# EAGLE library part 2337822-1 (library 473)
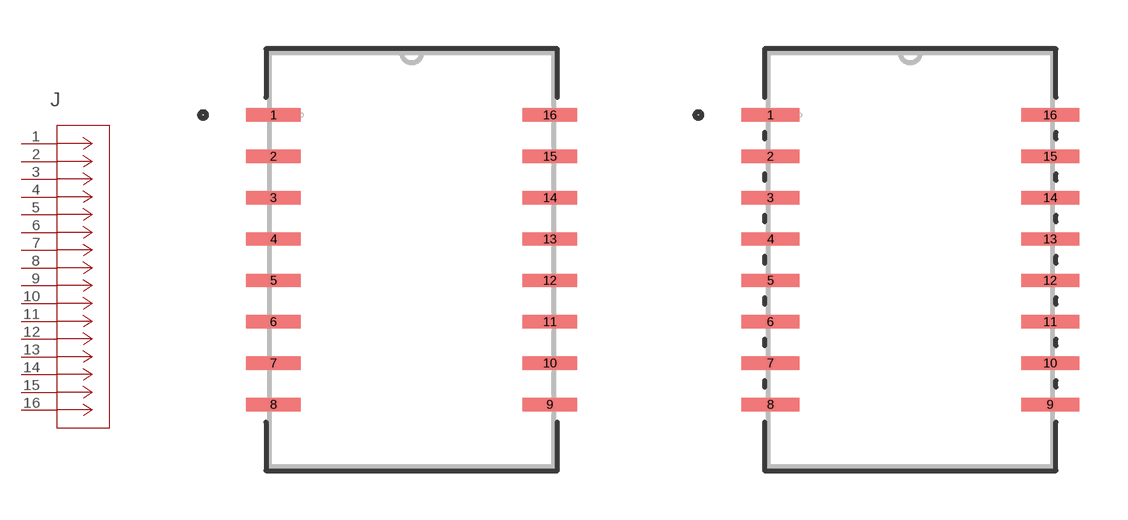
[diagram p0: symbol with the pads of CONN16_2337822-1_TEC; footprints CONN16_2337822-1_TEC, CONN16_2337822-1_TEC-M]

Designator prefix J

## 2337822-1 (COPYRIGHT: Copyright (C) 2022 Ultra Librarian. All rights reserved.; DIGI-KEY_PART_NUMBER_1: A145148TR-ND; DIGI-KEY_PART_NUMBER_2: A145148CT-ND; DIGI-KEY_PART_NUMBER_3: A145148DKR-ND; MANUFACTURER_PART_NUMBER: 2337822-1; MFR_NAME: TE Connectivity)  [CONN16_2337822-1_TEC]
1  1  pas
2  2  pas
3  3  pas
4  4  pas
5  5  pas
6  6  pas
7  7  pas
8  8  pas
9  9  pas
10  10  pas
11  11  pas
12  12  pas
13  13  pas
14  14  pas
15  15  pas
16  16  pas

## 2337822-1CONN16_2337822-1_TEC-M (COPYRIGHT: Copyright (C) 2022 Ultra Librarian. All rights reserved.; DIGI-KEY_PART_NUMBER_1: A145148TR-ND; DIGI-KEY_PART_NUMBER_2: A145148CT-ND; DIGI-KEY_PART_NUMBER_3: A145148DKR-ND; MANUFACTURER_PART_NUMBER: 2337822-1; MFR_NAME: TE Connectivity)  [CONN16_2337822-1_TEC-M]
Pads as for CONN16_2337822-1_TEC

## 2337822-1CONN16_2337822-1_TEC-L (COPYRIGHT: Copyright (C) 2022 Ultra Librarian. All rights reserved.; DIGI-KEY_PART_NUMBER_1: A145148TR-ND; DIGI-KEY_PART_NUMBER_2: A145148CT-ND; DIGI-KEY_PART_NUMBER_3: A145148DKR-ND; MANUFACTURER_PART_NUMBER: 2337822-1; MFR_NAME: TE Connectivity)  [CONN16_2337822-1_TEC-L]
Pads as for CONN16_2337822-1_TEC

## Footprint CONN16_2337822-1_TEC (pad centres in mm)
smd 1.676 x 0.406: 1 -4.242,4.445; 2 -4.242,3.175; 3 -4.242,1.905; 4 -4.242,0.635; 5 -4.242,-0.635; 6 -4.242,-1.905; 7 -4.242,-3.175; 8 -4.242,-4.445; 9 4.242,-4.445; 10 4.242,-3.175; 11 4.242,-1.905; 12 4.242,-0.635; 13 4.242,0.635; 14 4.242,1.905; 15 4.242,3.175; 16 4.242,4.445

## Footprint CONN16_2337822-1_TEC-M (pad centres in mm)
smd 1.778 x 0.406: 1 -4.293,4.445; 2 -4.293,3.175; 3 -4.293,1.905; 4 -4.293,0.635; 5 -4.293,-0.635; 6 -4.293,-1.905; 7 -4.293,-3.175; 8 -4.293,-4.445; 9 4.293,-4.445; 10 4.293,-3.175; 11 4.293,-1.905; 12 4.293,-0.635; 13 4.293,0.635; 14 4.293,1.905; 15 4.293,3.175; 16 4.293,4.445

## Footprint CONN16_2337822-1_TEC-L (pad centres in mm)
smd 1.575 x 0.406: 1 -4.191,4.445; 2 -4.191,3.175; 3 -4.191,1.905; 4 -4.191,0.635; 5 -4.191,-0.635; 6 -4.191,-1.905; 7 -4.191,-3.175; 8 -4.191,-4.445; 9 4.191,-4.445; 10 4.191,-3.175; 11 4.191,-1.905; 12 4.191,-0.635; 13 4.191,0.635; 14 4.191,1.905; 15 4.191,3.175; 16 4.191,4.445